# EAGLE library part BMP085 (library BLIMP)
Barometric sensor
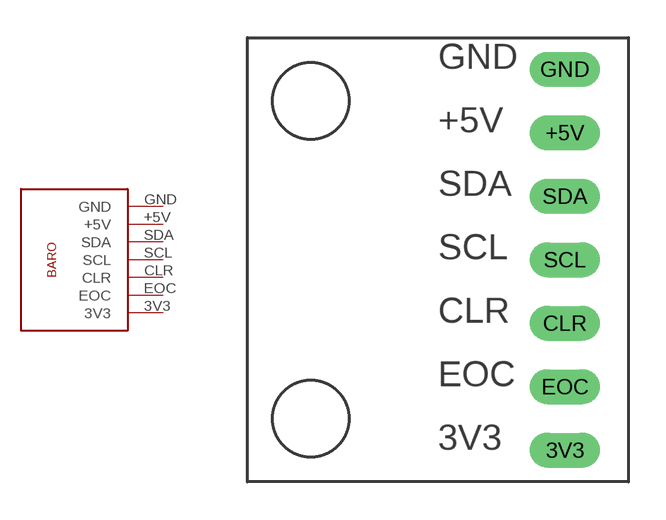
[diagram p1: symbol with the pads of BMP085; footprint BMP085]

Designator prefix BARO

## BMP085  [BMP085]
3V3  3V3
+5V  +5V
CLR  CLR
EOC  EOC
GND  GND
SCL  SCL
SDA  SDA

## Footprint BMP085 (pad centres in mm)
Barometric sensor
drill 0.9 pad 1.27 long: 3V3 5.08,-7.62; +5V 5.08,5.08; CLR 5.08,-2.54; EOC 5.08,-5.08; GND 5.08,7.62; SCL 5.08,0; SDA 5.08,2.54